# EAGLE library part 87264-08_S (library con-molex-milli-grid)
RECEPTACAL
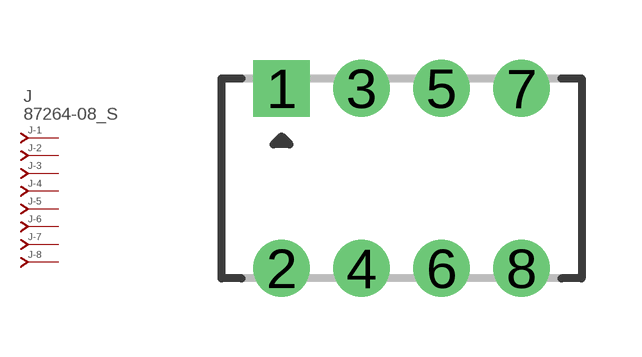
[diagram p283: symbol with the pads of 87264-08; footprint 87264-08]

Designator prefix J; gates -1=J-NV -2=J-N -3=J-N -4=J-N -5=J-N -6=J-N -7=J-N -8=J-N

## 87264-08_S  [87264-08]
1  -1:J  pas
2  -2:J  pas
3  -3:J  pas
4  -4:J  pas
5  -5:J  pas
6  -6:J  pas
7  -7:J  pas
8  -8:J  pas

## Footprint 87264-08 (pad centres in mm)
RECEPTACAL Dual Row, Side Entry
drill 0.914 square: 1 -3,2.25
drill 0.914: 2 -3,-2.25; 3 -1,2.25; 4 -1,-2.25; 5 1,2.25; 6 1,-2.25; 7 3,2.25; 8 3,-2.25